# Altium integrated library 282834-3.IntLib: 1 symbol
Pins are listed as number, name and electrical type; pins without a type are passive.

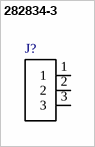
[diagram p0: symbol 282834-3]

## 282834-3
designator J?  (value not drawn)
/ 3 Position Wire to Board Terminal Block Horizontal with Board 0.100 _2.54mm_ /; MF: TE Connectivity; Availability: Unavailable; Price: None; SnapEDA_Link: https://www.snapeda.com/parts/282834-3/TE%20Connectivity%20AMP%20Connectors/view-part/398089/?ref=snap; EU_RoHS_Compliance: Compliant with Exemptions; TE_purchase_URL: https://www.te.com/usa-en/product-282834-3.html?te_bu=Cor&te_type=disp&te_campaign=seda_glo_cor-seda-global-disp-prtnr-fy19-seda-model-bom-cta_sma-317_1&elqCampaignId=32493; MP: 282834-3; Package: None; Value: *
footprint *TE_282834-3
pins: 1, 2, 3